# EAGLE library part *161 (library on-semiconductor)
Universal Voltage Monitor Source: www.onsemi.com/pub_link/Collateral/MC34161-D.PDF
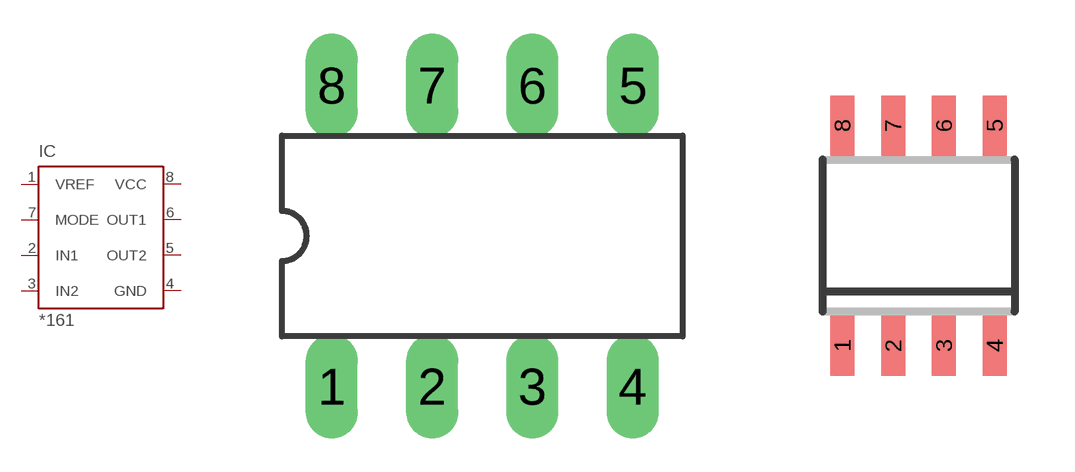
[diagram p0: symbol with the pads of DIL8; footprints DIL8, SOIC8]

Designator prefix IC

## MC33161P, MC34161P  [DIL8]
1  VREF  out
2  IN1  in
3  IN2  in
4  GND  pwr
5  OUT2  oc
6  OUT1  oc
7  MODE  in
8  VCC  pwr

## MC33161D, MC34161D, NCV33161D  [SOIC8]
Pads as for DIL8

## MC33161DM, MC34161DM  [MICRO8]
Pads as for DIL8

## Footprint DIL8 (pad centres in mm)
Dual In Line package type P
drill 0.813 long: 1 -3.81,-3.81; 2 -1.27,-3.81; 3 1.27,-3.81; 4 3.81,-3.81; 5 3.81,3.81; 6 1.27,3.81; 7 -1.27,3.81; 8 -3.81,3.81

## Footprint SOIC8 (pad centres in mm)
SOIC-8 CASE 751-07 Source: http://www.onsemi.com/pub/Collateral/MC34164-D.PDF D (R-PDSO-G8)PLATIC SMALL-OUTLINE PACKAGE Source: http://focus.ti.com/lit/ds/symlink/tlc27l2.pdf
smd 0.6 x 1.5: 1 -1.905,-2.75; 2 -0.635,-2.75; 3 0.635,-2.75; 4 1.905,-2.75; 5 1.905,2.75; 6 0.635,2.75; 7 -0.635,2.75; 8 -1.905,2.75

## Footprint MICRO8 (pad centres in mm)
Micro8 CASE 846A-02 Source: http://www.onsemi.com/pub/Collateral/MC34164-D.PDF
smd 0.38 x 1.05: 1 -0.975,-2.125; 2 -0.325,-2.125; 3 0.325,-2.125; 4 0.975,-2.125; 5 0.975,2.125; 6 0.325,2.125; 7 -0.325,2.125; 8 -0.975,2.125